# Altium footprint library DC2DC_Buck_Boost_Converter_Layout.PcbLib: 29 footprints (part 2 of 2)
Each footprint in its own frame and in the unit in brackets; x right, y up, seen from the top. Pads: shape width x height; smd on the part's side, far side on the other; paste and mask are expansions set on the pad; w line width, h text height; cw(c..) or ccw(c..) is an arc to the next point about the centre after c.
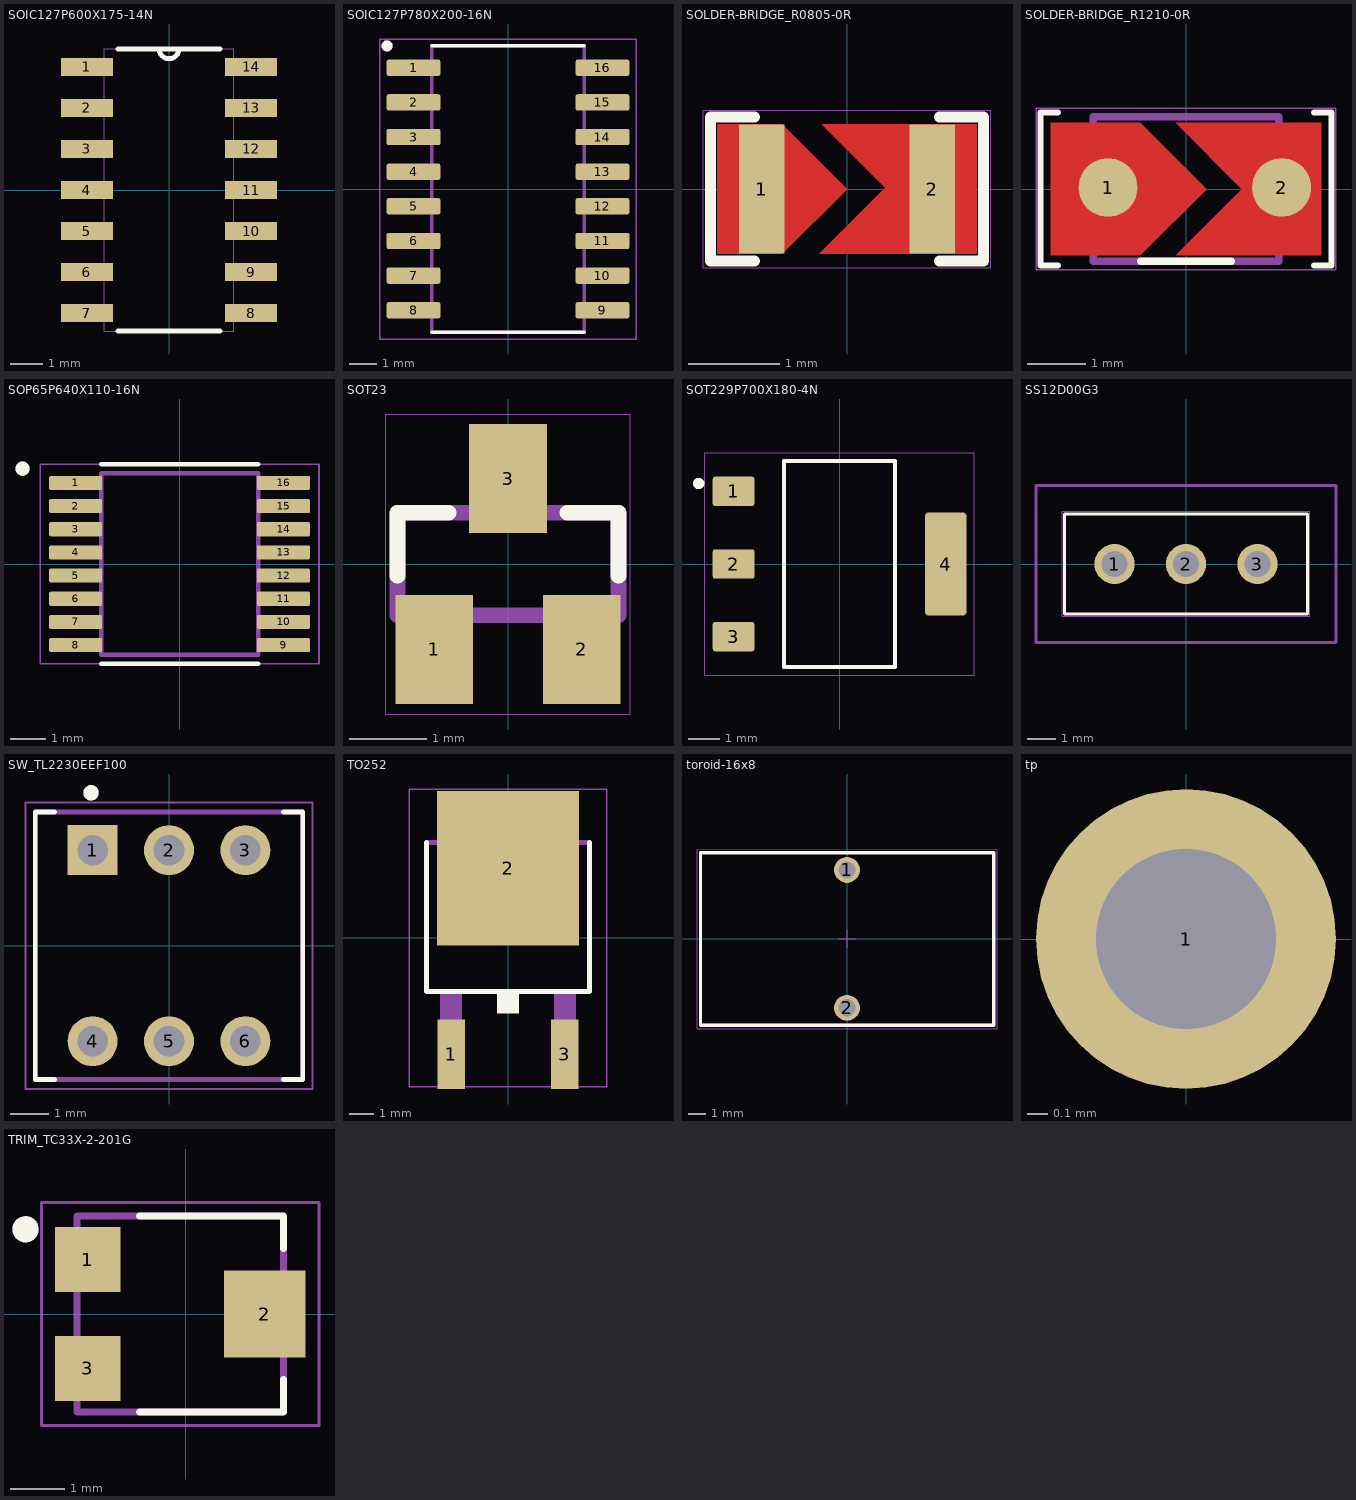
[diagram p1: the footprints below, top view; thin cyan lines are the x and y axes]

## SOIC127P600X175-14N [mil]
height 393.7
pads (14):
  rect 63x22 smd: 1(-100,150) 2(-100,100) 3(-100,50) 4(-100,0) 5(-100,-50) 6(-100,-100) 7(-100,-150) 8(100,-150) 9(100,-100) 10(100,-50) 11(100,0) 12(100,50) 13(100,100) 14(100,150)
Top Overlay:
  lines w6: -62,-172 62,-172 ; -62,172 -12,172 ; 62,172 12,172 ; -12,172 ccw(c0,172) 12,172 ; -12,172 12,172
Mechanical 13:
  lines w0: -12,172 ccw(c0,172) 12,172 ; -12,172 -79,172 -79,-172 79,-172 79,172 12,172 ; -12,172 12,172 ; -118,-160 -79,-160 -79,-140 -118,-140 -118,-160 ; -118,-110 -79,-110 -79,-90 -118,-90 -118,-110 ; -118,-60 -79,-60 -79,-40 -118,-40 -118,-60 ; -118,-10 -79,-10 -79,10 -118,10 -118,-10 ; -118,40 -79,40 -79,60 -118,60 -118,40 ; -118,90 -79,90 -79,110 -118,110 -118,90 ; -118,140 -79,140 -79,160 -118,160 -118,140 ; 79,-160 118,-160 118,-140 79,-140 79,-160 ; 79,-110 118,-110 118,-90 79,-90 79,-110 ; 79,-60 118,-60 118,-40 79,-40 79,-60 ; 79,-10 118,-10 118,10 79,10 79,-10 ; 79,40 118,40 118,60 79,60 79,40 ; 79,90 118,90 118,110 79,110 79,90 ; 79,140 118,140 118,160 79,160 79,140
3D body "74ACT04SC.STEP": height 69.9, standoff 1, extent -118.11,-170 118.11,170.55

## SOIC127P780X200-16N [mm]
height 2
pads (16):
  rrect25% 1.97x0.6 smd: 1(-3.465,4.445) 2(-3.465,3.175) 3(-3.465,1.905) 4(-3.465,0.635) 5(-3.465,-0.635) 6(-3.465,-1.905) 7(-3.465,-3.175) 8(-3.465,-4.445) 9(3.465,-4.445) 10(3.465,-3.175) 11(3.465,-1.905) 12(3.465,-0.635) 13(3.465,0.635) 14(3.465,1.905) 15(3.465,3.175) 16(3.465,4.445)
Top Overlay:
  circle w0.2: c-4.436,5.248 r0.1
  lines w0.127: -2.8,-5.25 2.8,-5.25 ; -2.8,5.25 2.8,5.25
Mechanical 13:
  circle w0.2: c-4.438,5.248 r0.1
  lines w0.127: -2.8,-5.25 -2.8,5.25 2.8,5.25 2.8,-5.25 -2.8,-5.25
Mechanical 15:
  lines w0.05: -4.7,-5.5 -4.7,5.5 4.7,5.5 4.7,-5.5 -4.7,-5.5
3D body "step_temp.STEP": height 2, standoff 0, extent -3.9,-5.1 3.9,5.1

## SOLDER-BRIDGE_R0805-0R [mm]
height 10
pads (2):
  rect 0.5x1.42 smd mask+0: 1(-0.935,0) 2(0.935,0)
Top Layer:
  region: -0.279,0.711 0.419,0.013 -0.305,-0.711 1.422,-0.711 1.422,0.711
  region: 0,0 -0.711,0.711 -1.422,0.711 -1.422,-0.711 -0.711,-0.711
Top Overlay:
  lines w0.12: -1.016,-0.787 -1.499,-0.787 -1.499,-0.762 -1.499,0.787 -1.016,0.787 ; 1.016,-0.787 1.499,-0.787 1.499,0.762 1.499,0.787 1.016,0.787
Mechanical 16:
  lines w0.01: -1.575,-0.864 -1.575,0.864 1.575,0.864 1.575,-0.864 -1.575,-0.864
3D body "step_temp.STEP": height 0.6, standoff 0, extent -1,-0.625 1,0.625

## SOLDER-BRIDGE_R1210-0R [mil]
height 393.7
pads (2):
  round 40 smd paste-393.7 mask+0: 1(-53,1) 2(65,1)
Top Layer:
  region: -92,45 -31,45 14,0 -31,-45 -92,-45 -92,-43
  region: -7,45 38,0 -7,-45 92,-45 92,45 89,45
Top Overlay:
  lines w4: -87,-52 -99,-52 -99,52 -87,52 ; 87,-52 99,-52 99,52 87,52
  lines w5: -30.71,-49.21 30.71,-49.21
Mechanical 13:
  lines w5: -62.99,-49.21 62.99,-49.21 62.99,49.21 -62.99,49.21 -62.99,-49.21
Mechanical 16:
  lines w1: -102,-55 -102,-26.5 -102,26.5 -102,55 102,55 102,-55 -102,-55
3D body "ERJ-U14F3320U.STEP": height 23.62, standoff 0, extent -63.99,-49.21 61.99,49.21

## SOP65P640X110-16N [mm]
height 10
pads (16):
  rrect25% 1.49x0.4 smd: 1(-2.915,2.275) 2(-2.915,1.625) 3(-2.915,0.975) 4(-2.915,0.325) 5(-2.915,-0.325) 6(-2.915,-0.975) 7(-2.915,-1.625) 8(-2.915,-2.275) 9(2.915,-2.275) 10(2.915,-1.625) 11(2.915,-0.975) 12(2.915,-0.325) 13(2.915,0.325) 14(2.915,0.975) 15(2.915,1.625) 16(2.915,2.275)
Top Overlay:
  circle w0.2: c-4.405,2.675 r0.1
  lines w0.127: -2.2,-2.795 2.2,-2.795 ; -2.2,2.795 2.2,2.795
Mechanical 13:
  circle w0.2: c-4.405,2.675 r0.1
  lines w0.127: -2.2,-2.55 2.2,-2.55 2.2,2.55 -2.2,2.55 -2.2,-2.55
Mechanical 15:
  lines w0.05: -3.91,-2.8 3.91,-2.8 3.91,2.8 -3.91,2.8 -3.91,-2.8
3D body "S-8254AAEFT-TB-G.STEP": height 1.1, standoff 0, extent -3.2,-2.55 3.2,2.55

## SOT23 [mm]
height 10
pads (3):
  rect 1x1.4 smd: 1(-0.95,-1.1) 2(0.95,-1.1) 3(0,1.1)
Top Overlay:
  lines w0.203: -1.422,-0.152 -1.422,0.66 -0.764,0.66 ; 0.764,0.66 1.422,0.66 1.422,-0.152
Mechanical 13:
  region: -0.711,-1.296 -1.169,-1.296 -1.169,-0.711 -0.711,-0.711
  region: 1.168,-1.296 0.712,-1.296 0.712,-0.711 1.168,-0.711
  region: 0.229,0.713 -0.229,0.713 -0.229,1.295 0.229,1.295
  lines w0.203: -1.422,-0.66 -1.422,0.66 1.422,0.66 1.422,-0.66 -1.422,-0.66
Mechanical 16:
  lines w0.01: -1.575,-1.93 1.575,-1.93 1.575,1.93 1.549,1.93 -1.575,1.93 -1.575,1.905 -1.575,-1.778 -1.575,-1.93
3D body "MMBTA42--3DModel-STEP-711646.STEP": height 1.3, standoff 0, extent -1.52,-1.27 1.52,1.33

## SOT229P700X180-4N [mm]
height 1.8
pads (4):
  rrect15% 1.31x0.93 smd: 1(-3.345,2.29) 2(-3.345,0) 3(-3.345,-2.29)
  rrect15% 1.31x3.24 smd: 4(3.345,0)
Top Overlay:
  circle w0.254: c-4.445,2.54 r0.051
  lines w0.127: -1.753,-3.253 -1.753,3.253 1.753,3.253 1.753,-3.253 -1.753,-3.253
Mechanical 13:
  lines w0.127: -1.753,-3.253 -1.753,3.253 1.753,3.253 1.753,-3.253 -1.753,-3.253
Mechanical 16:
  lines w0.025: -4.25,-3.502 -4.25,3.502 -2.125,3.502 2.125,3.502 4.25,3.502 4.25,-3.502 -4.25,-3.502
3D body "step_temp.STEP": height 1.8, standoff 0, extent -3.499,-3.251 3.499,3.251

## SS12D00G3 [mm]
height 10
pads (3):
  round 1.4 hole 0.9: 1(-2.5,0) 2(0,0) 3(2.5,0)
Top Overlay:
  lines w0.1: -4.25,-1.75 -4.25,1.75 4.25,1.75 4.25,-1.75 -4.25,-1.75
Mechanical 16:
  lines w0.025: -4.332,-1.83 4.329,-1.83 4.329,1.842 -4.332,1.842 -4.332,-1.83
Mechanical 20:
  lines w0.1: -5.25,-2.75 -5.25,2.75 5.25,2.75 5.25,-2.75 -5.25,-2.75
3D body "SS12D00G3.stp": height 6.78, standoff -3.57, extent -4.25,-1.75 4.25,1.75

## SW_TL2230EEF100 [mm]
height 12.5
pads (6):
  rect 1.308x1.308 hole 0.8: 1(-2,2.5)
  round 1.308 hole 0.8: 2(0,2.5) 3(2,2.5) 4(-2,-2.5) 5(0,-2.5) 6(2,-2.5)
Top Overlay:
  circle w0.2: c-2.04,4 r0.1
  lines w0.127: -3,-3.5 -3.5,-3.5 -3.5,3.5 -3,3.5 ; 3,-3.5 3.5,-3.5 3.5,3.5 3,3.5
Mechanical 13:
  circle w0.2: c-2.04,4 r0.1
  lines w0.127: -3.5,-3.5 3.5,-3.5 3.5,3.5 -3.5,3.5 -3.5,-3.5
Mechanical 15:
  lines w0.05: -3.75,-3.75 3.75,-3.75 3.75,3.75 -3.75,3.75 -3.75,-3.75
3D body "step_temp.STEP": height 12.51, standoff -3.49, extent -3.5,-3.5 3.5,3.5

## TO252 [mm]
height 10
pads (3):
  rect 1.1x2.794 smd: 1(-2.28,-4.674) 3(2.28,-4.674)
  rect 5.7x6.2 smd: 2(0,2.794)
Top Overlay:
  region: 0.432,-3.023 -0.432,-3.023 -0.432,-2.261 0.432,-2.261
  lines w0.203: -3.277,3.835 -3.277,-2.159 3.277,-2.159 3.277,3.835
Mechanical 13:
  region: -1.854,-5.156 -2.718,-5.156 -2.718,-2.261 -1.854,-2.261
  region: 2.718,-5.156 1.854,-5.156 1.854,-2.261 2.718,-2.261
  region: 2.565,4.648 2.565,3.937 -2.565,3.937 -2.565,4.648 -2.108,5.105 2.108,5.105
  lines w0.203: -3.277,3.835 3.277,3.835 ; -2.565,3.937 -2.565,4.648 -2.108,5.105 2.108,5.105 2.565,4.648 2.565,3.937 -2.565,3.937
Mechanical 15:
  lines w0.051: -3.973,-5.983 3.973,-5.983 3.973,5.983 -3.973,5.983 -3.973,-5.983
3D body "step_temp.STEP": height 2.52, standoff 0, extent -3.27,-4.952 3.27,4.952

## toroid-16x8 [mm] "THT Leaded Toroidal Storage Choke, body 17x11mm"
height 17
pads (2):
  round 1.5 hole 1: 1(0,4) 2(0,-4)
Top Overlay:
  lines w0.2: -8.497,-4.99 -8.497,4.988 -8.494,4.992 8.496,4.992 8.5,4.988 8.5,-5 -8.487,-5 -8.497,-4.99
Top Courtyard:
  lines w0.05: -8.7,-5.207 8.7,-5.207 8.7,5.182 -8.7,5.195 -8.7,-5.205 ; -0.5,0 0.5,0 ; 0,-0.5 0,0.5
Top 3D Body:
  lines w0.1: -8.5,-4.953 8.5,-4.953 8.5,4.981 ; -8.497,-4.993 -8.497,4.998 ; -8.489,4.992 8.511,4.992
Top Component Outline:
  lines w0.1: -8.5,-4.983 -8.5,5.025 ; -8.5,-4.953 8.5,-4.953 8.5,4.984 ; -8.499,4.983 8.501,4.983
3D body "744131.stp": height 14.26, standoff -11.92, extent -7.26,-4.399 7.26,4.399

## tp [mm]
height 10
pads (1):
  round 1.5 hole 0.9: 1(0,0)

## TRIM_TC33X-2-201G [mm]
height 10
pads (3):
  rect 1.2x1.2 smd: 1(-1.8,1) 3(-1.8,-1)
  rect 1.5x1.6 smd: 2(1.45,0)
Top Overlay:
  circle w0.24: c-2.946,1.558 r0.12
  lines w0.127: -0.85,-1.8 1.8,-1.8 1.8,-1.2 ; -0.85,1.8 1.8,1.8 1.8,1.2
Mechanical 13:
  circle w0.24: c-2.946,1.558 r0.12
  lines w0.127: -2,-1.8 1.8,-1.8 1.8,1.8 -2,1.8 -2,-1.8
Mechanical 15:
  lines w0.05: -2.65,-2.05 2.45,-2.05 2.45,2.05 -2.65,2.05 -2.65,-2.05
3D body "step_temp.STEP": height 1.23, standoff 0.03, extent -2.027,-1.5 1.773,1.5